# Altium footprint library TBP01R250806BE.PcbLib: 1 footprints
Each footprint in its own frame and in the unit in brackets; x right, y up, seen from the top. Pads: shape width x height; smd on the part's side, far side on the other; paste and mask are expansions set on the pad; w line width, h text height; cw(c..) or ccw(c..) is an arc to the next point about the centre after c.
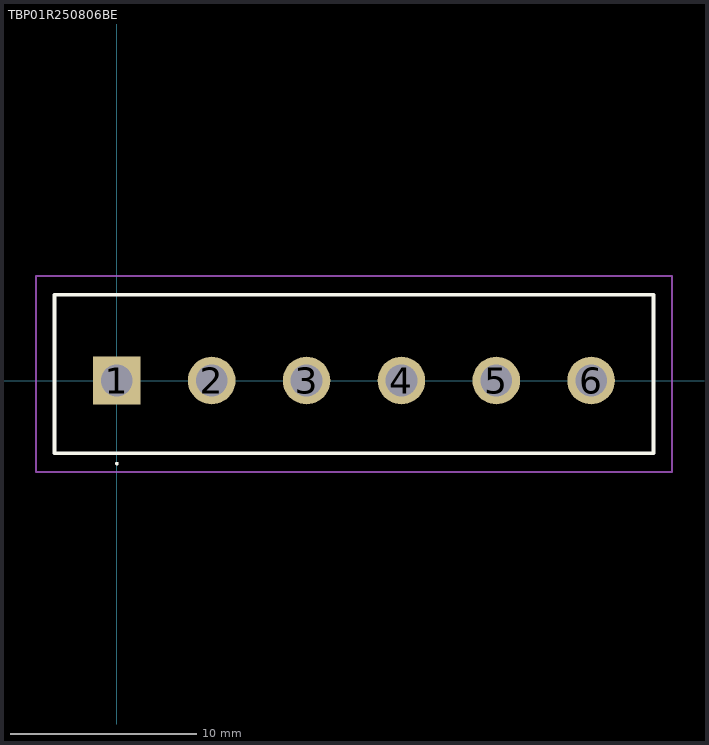
[diagram p0: the footprint, top view; thin cyan lines are the x and y axes]

## TBP01R250806BE [mm]
pads (6):
  rect 2.55x2.55 hole 1.7: 1(0,0)
  round 2.55 hole 1.7: 2(5.08,0) 3(10.16,0) 4(15.24,0) 5(20.32,0) 6(25.4,0)
Top Overlay:
  lines w0.1: 0,-4.5 0,-4.5 ; 0,-4.5 ccw(c0,-4.45) 0,-4.4 ; 0,-4.5 cw(c0,-4.45) 0,-4.4 ; 0,-4.4 0,-4.4
  lines w0.2: -3.34,-3.9 28.74,-3.9 28.74,4.6 -3.34,4.6 -3.34,-3.9
Mechanical 15:
  lines w0.1: -3.34,-3.9 28.74,-3.9 28.74,4.6 -3.34,4.6 -3.34,-3.9
Mechanical 20:
  lines w0.1: -4.34,-4.9 29.74,-4.9 29.74,5.6 -4.34,5.6 -4.34,-4.9